# Altium schematic symbol library op-amp_1.Schlib: 1 symbol
Pins are listed as number, name and electrical type; pins without a type are passive.

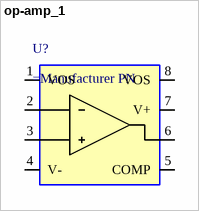
[diagram p0: symbol op-amp_1]

## op-amp_1
designator U?
Op Amp, Generic, 8-pin
pins: 1 VOS, 2, 3, 4 V-, 5 COMP, 6, 7 V+, 8 VOS